# Altium schematic symbol library WL-SFSW.SchLib: 3 symbols
Pins are listed as number, name and electrical type; pins without a type are passive.

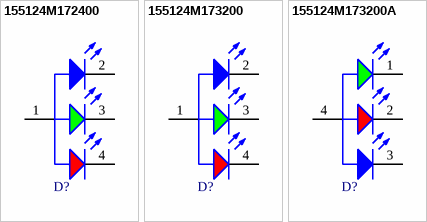
[diagram p0: symbols 155124M172400 to 155124M173200A]

## 155124M172400
designator D?, comment Red & Green & Blue, 110°  (value not drawn)
WL-SFSW SMT Full-color Side View Waterclear, size 1204, Red & Green & Blue, 110°; Manufacturer Part Number: 155124M172400; Manufacturer: Wurth Elektronik; Case/Size Code: 1204; Chip Technology: AlInGaP + InGaN; Dominant Wavelength (Blue): 465nm; Dominant Wavelength (Green): 525nm; Dominant Wavelength (Red): 620nm; Forward Voltage (Blue): 3V; Forward Voltage (Green): 2.8V; Forward Voltage (Red): 2V; Luminous Intensity (Blue): 350mcd; Luminous Intensity (Green): 1500mcd; Luminous Intensity (Red): 950mcd; Peak Wavelength (Blue): 480nm; Peak Wavelength (Green): 515nm; Peak Wavelength (Red): 630nm; Category: Signal LEDs; Match Code: WL-SFSW; ComponentLink1Description: Website Link; ComponentLink1URL: https://www.we-online.com/redexpert/article/155124M172400?ad; ComponentLink2Description: Datasheet Link; ComponentLink2URL: https://www.we-online.com/redexpert/spec/155124M172400?ad; Mount: Surface Mount; Operating Temperature Max: 85°C; Operating Temperature Min: -40°C; Packaging: Tape and Reel; Length: 3.2mm; Width: 1.5mm; Height: 1mm; Emitting Color: Red & Green & Blue; Viewing Angle: 110°
footprint WL-SFSW_1204_155124M172400
simulation model 1204_155124M172400
pins: 1 A, 2 K, 3 K, 4 K

## 155124M173200
designator D?, comment Red & Green & Blue, 120°  (value not drawn)
WL-SFSW SMT Full-color Side View Waterclear, size 1204, Red & Green & Blue, 120°; Manufacturer Part Number: 155124M173200; Manufacturer: Wurth Elektronik; Case/Size Code: 1204; Chip Technology: AlInGaP + InGaN; Dominant Wavelength (Blue): 465nm; Dominant Wavelength (Green): 523nm; Dominant Wavelength (Red): 622nm; Forward Voltage (Blue): 3V; Forward Voltage (Green): 2.8V; Forward Voltage (Red): 2V; Luminous Intensity (Blue): 140mcd; Luminous Intensity (Green): 850mcd; Luminous Intensity (Red): 450mcd; Peak Wavelength (Blue): 460nm; Peak Wavelength (Green): 515nm; Peak Wavelength (Red): 632nm; Category: Signal LEDs; Match Code: WL-SFSW; ComponentLink1Description: Website Link; ComponentLink1URL: https://www.we-online.com/redexpert/article/155124M173200?ad; ComponentLink2Description: Datasheet Link; ComponentLink2URL: https://www.we-online.com/redexpert/spec/155124M173200?ad; Mount: Surface Mount; Operating Temperature Max: 85°C; Operating Temperature Min: -40°C; Packaging: Tape and Reel; Length: 3.2mm; Width: 1.5mm; Height: 1mm; Emitting Color: Red & Green & Blue; Viewing Angle: 120°
footprint WL-SFSW_1204_155124M173200
simulation model 1204_155124M173200
pins: 1 A, 2 K, 3 K, 4 K

## 155124M173200A
designator D?, comment Red & Green & Blue, 120°  (value not drawn)
WL-SFSW SMT Full-color Side View Waterclear, size 1204, Red & Green & Blue, 120°; Manufacturer Part Number: 155124M173200A; Manufacturer: Wurth Elektronik; Case/Size Code: 1204; Chip Technology: AlInGaP + InGaN; Dominant Wavelength (Blue): 470nm; Dominant Wavelength (Green): 523nm; Dominant Wavelength (Red): 622nm; Forward Voltage (Blue): 3.1V; Forward Voltage (Green): 3V; Forward Voltage (Red): 2V; Luminous Intensity (Blue): 150mcd; Luminous Intensity (Green): 500mcd; Luminous Intensity (Red): 200mcd; Peak Wavelength (Blue): 465nm; Peak Wavelength (Green): 515nm; Peak Wavelength (Red): 632nm; Category: Signal LEDs; Match Code: WL-SFSW; ComponentLink1Description: Website Link; ComponentLink1URL: https://www.we-online.com/redexpert/article/155124M173200A?ad; ComponentLink2Description: Datasheet Link; ComponentLink2URL: https://www.we-online.com/redexpert/spec/155124M173200A?ad; Mount: Surface Mount; Operating Temperature Max: 85°C; Operating Temperature Min: -40°C; Packaging: Tape and Reel; Length: 3.2mm; Width: 1.48mm; Height: 1mm; Emitting Color: Red & Green & Blue; Viewing Angle: 120°
footprint WL-SFSW_1204_155124M173200A
simulation model 1204_155124M173200A
pins: 1 K, 2 K, 3 K, 4 A